# EAGLE library part VS1053B_BREAKOUT (library VS1053B_BREAKOUT)
This is a footprint for a breakout board from Adafruit the VS1053B Audio breakout board. This package will let you easily add this breakout board to your own project for stacking the breakout onto headers for your own project.
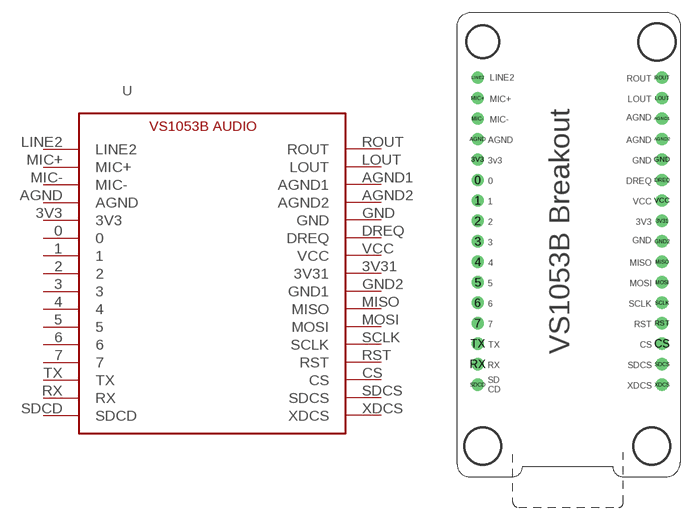
[diagram p0: symbol with the pads of VS1053_BREAKOUT; footprint VS1053_BREAKOUT]

Designator prefix -

## VS1053B_BREAKOUT  [VS1053_BREAKOUT]
0  0
1  1
2  2
3  3
3V3  3V3
3V31  3V31
4  4
5  5
6  6
7  7
AGND  AGND
AGND1  AGND1
AGND2  AGND2
CS  CS
DREQ  DREQ
GND  GND
GND2  GND1
LINE2  LINE2
LOUT  LOUT
MIC+  MIC+
MIC-  MIC-
MISO  MISO
MOSI  MOSI
ROUT  ROUT
RST  RST
RX  RX
SCLK  SCLK
SDCD  SDCD
SDCS  SDCS
TX  TX
VCC  VCC
XDCS  XDCS

## Footprint VS1053_BREAKOUT (pad centres in mm)
drill 1: 0 2.54,36.83; 1 2.54,34.29; 2 2.54,31.75; 3 2.54,29.21; 3V3 2.54,39.37; 3V31 25.4,31.75; 4 2.54,26.67; 5 2.54,24.13; 6 2.54,21.59; 7 2.54,19.05; AGND 2.54,41.91; AGND1 25.4,44.45; AGND2 25.4,41.91; CS 25.4,16.51; DREQ 25.4,36.83; GND 25.4,39.37; GND2 25.4,29.21; LINE2 2.54,49.53; LOUT 25.4,46.99; MIC+ 2.54,46.99; MIC- 2.54,44.45; MISO 25.4,26.67; MOSI 25.4,24.13; ROUT 25.4,49.53; RST 25.4,19.05; RX 2.54,13.97; SCLK 25.4,21.59; SDCD 2.54,11.43; SDCS 25.4,13.97; TX 2.54,16.51; VCC 25.4,34.29; XDCS 25.4,11.43